# Altium footprint library Display_7Segment.PcbLib: 53 footprints (part 1 of 4)
Each footprint in its own frame and in the unit in brackets; x right, y up, seen from the top. Pads: shape width x height; smd on the part's side, far side on the other; paste and mask are expansions set on the pad; w line width, h text height; cw(c..) or ccw(c..) is an arc to the next point about the centre after c.
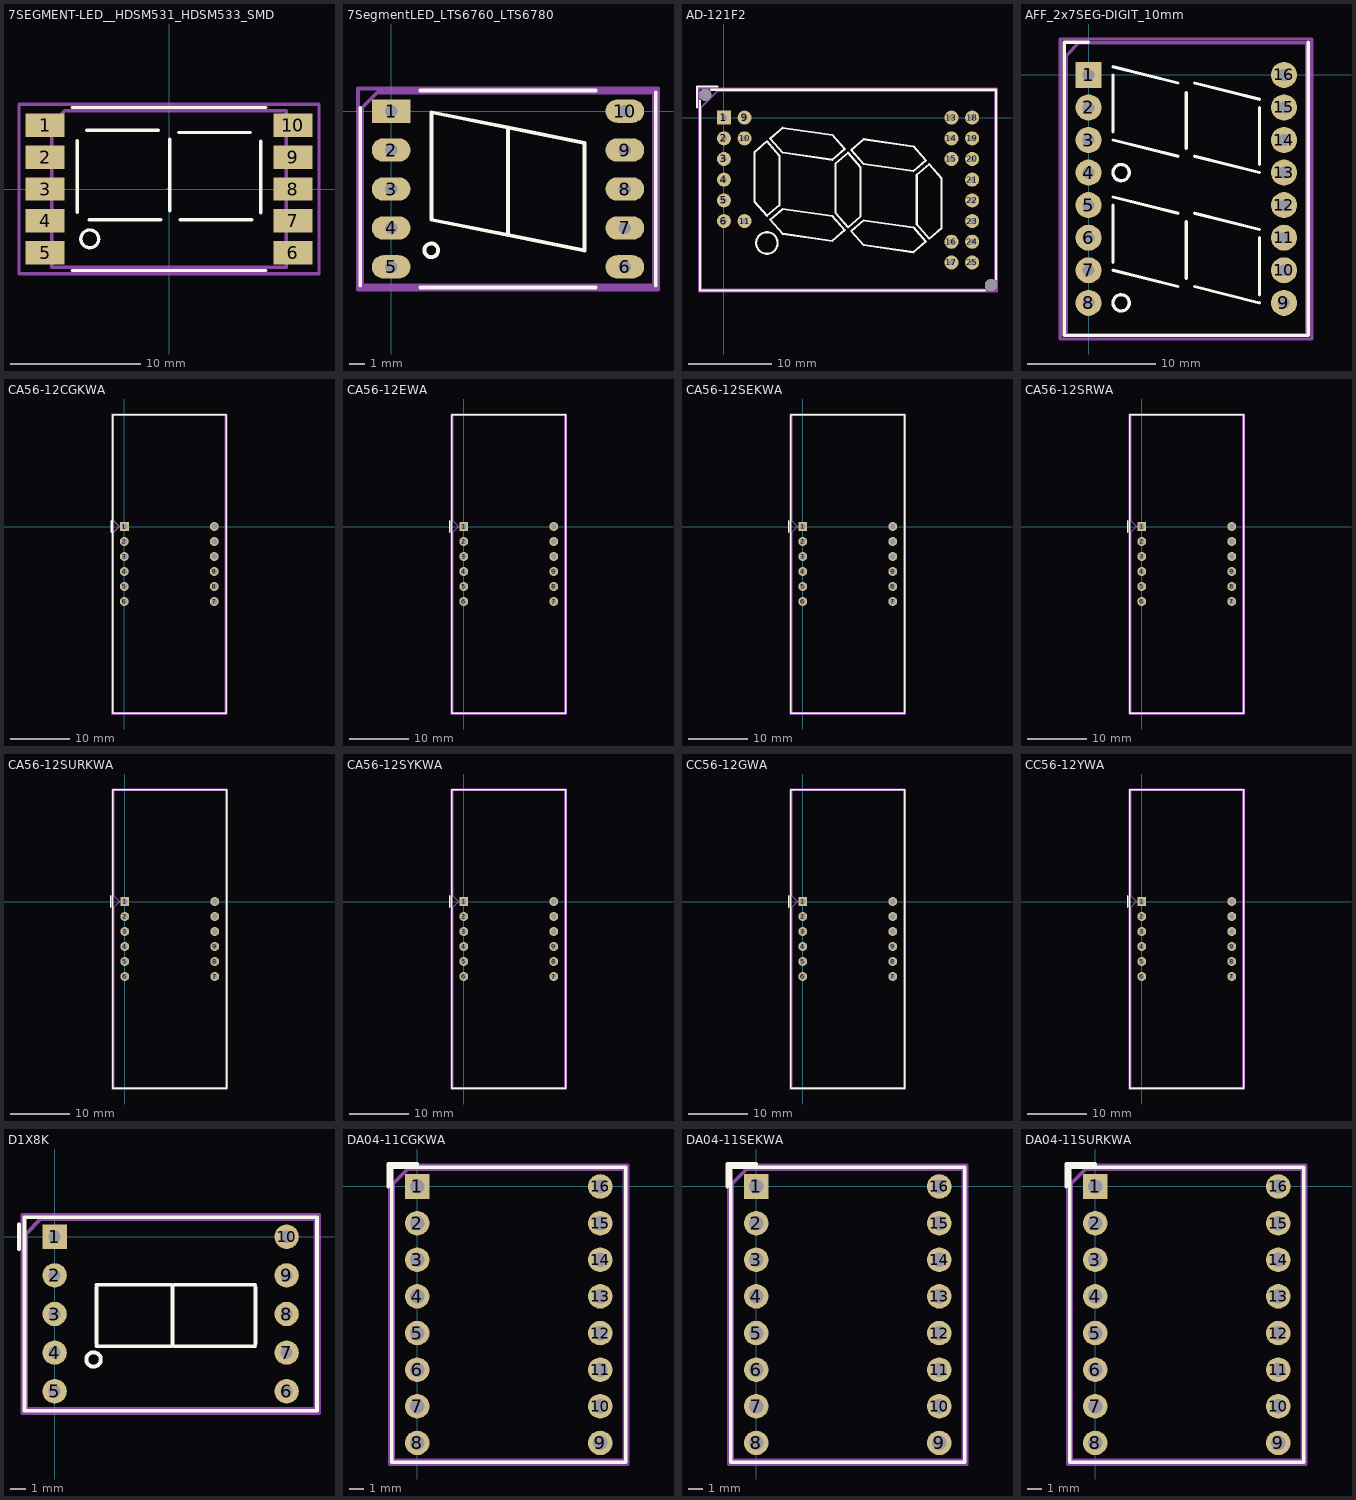
[diagram p0: the footprints below, top view; thin cyan lines are the x and y axes]

## 7SEGMENT-LED__HDSM531_HDSM533_SMD [mm]
pads (10):
  rect 3x1.8 smd: 1(-9.5,4.9) 2(-9.5,2.45) 3(-9.5,0) 4(-9.5,-2.45) 5(-9.5,-4.9) 6(9.5,-4.9) 7(9.5,-2.45) 8(9.5,0) 9(9.5,2.45) 10(9.5,4.9)
F.SilkS:
  circle w0.254: c-6.075,-3.825 r0.682
  lines w0.254: -7.425,-6.25 7.425,-6.25 ; -7.425,6.25 7.425,6.25 ; -7.025,-1.775 -7.025,3.725 ; -6.3,4.5 -0.8,4.5 ; -6.125,-2.35 -0.625,-2.35 ; 0.05,-1.675 0.05,3.825 ; 0.75,4.325 6.25,4.325 ; 0.85,-2.35 6.35,-2.35 ; 7.025,-1.825 7.025,3.675
Top Component Center:
  lines w0.127: -0.127,0 0.127,0 ; 0,-0.127 0,0.127
Top Assembly:
  lines w0.254: -9,-6 9,-6 9,6 -8,6 -9,5 -9,-6
  text "'.Designator'" at -4.047,-0.84 h1
Top Courtyard:
  lines w0.254: -11.5,-6.5 11.5,-6.5 11.5,6.5 -11.5,6.5 -11.5,-6.5
Top Designator:
  text ".Designator" at -7.618,-0.508 h1.52

## 7SegmentLED_LTS6760_LTS6780 [mm]
pads (10):
  rect 2.524x1.524 hole 0.8: 1(0,0)
  rrect100% 2.524x1.524 hole 0.8: 2(0,-2.54) 3(0,-5.08) 4(0,-7.62) 5(0,-10.16) 6(15.24,-10.16) 7(15.24,-7.62) 8(15.24,-5.08) 9(15.24,-2.54) 10(15.24,0)
F.SilkS:
  circle w0.254: c2.62,-9.08 r0.447
  lines w0.254: -2.015,-11.38 -2.015,0.22 ; 1.905,-11.49 13.335,-11.49 ; 1.905,1.33 13.335,1.33 ; 17.255,-11.38 17.255,1.22 ; 7.62,-8.08 12.62,-9.08 12.62,-2.08 7.62,-1.08 ; 7.62,-8.08 7.62,-1.08 ; 7.62,-8.08 2.62,-7.08 2.62,-0.08 7.62,-1.08
Top Assembly:
  lines w0.254: -1.905,-11.38 17.145,-11.38 17.145,1.22 -0.905,1.22 -1.905,0.22 -1.905,-11.38
  text "'.Designator'" at 3.823,-5.92 h1
Top Courtyard:
  lines w0.254: -2.16,-11.63 17.4,-11.63 17.4,1.47 -2.16,1.47 -2.16,-11.63
Top Designator:
  text ".Designator" at 0.002,-5.588 h1.52

## AD-121F2 [mm]
pads (24):
  rect 1.7x1.7 hole 0.7: 1(0,0)
  round 1.7 hole 0.7: 2(0,-2.5) 3(0,-5) 4(0,-7.5) 5(0,-10) 6(0,-12.5) 9(2.5,0) 10(2.5,-2.5) 11(2.5,-12.5) 13(27.5,0) 14(27.5,-2.5) 15(27.5,-5) 16(27.5,-15) 17(27.5,-17.5) 18(30,0) 19(30,-2.5) 20(30,-5) 21(30,-7.5) 22(30,-10) 23(30,-12.5) 24(30,-15) 25(30,-17.5)
  round 1.45 hole 1.45: Un1(-2.25,2.75) Un2(32.25,-20.25)
F.SilkS:
  circle w0.254: c5.2,-15.15 r1.3
  lines w0.254: -3.25,1.25 -3.25,3.75 -0.75,3.75 ; -2.87,2.05 -2.87,-20.87 31.55,-20.87 ; -1.55,3.37 32.87,3.37 32.87,-19.55 ; 3.7,-10.17 5.2,-11.87 6.7,-10.59 6.7,-4.59 5.2,-2.87 3.7,-4.17 3.7,-10.17 ; 5.6,-12.33 7.1,-11.03 13.1,-11.89 14.6,-13.59 13.1,-14.89 7.1,-14.03 5.6,-12.33 ; 5.6,-2.53 7.1,-1.23 13.1,-2.09 14.6,-3.79 13.1,-5.09 7.1,-4.23 5.6,-2.53 ; 13.5,-11.53 15,-13.25 16.5,-11.97 16.5,-5.97 15,-4.25 13.5,-5.53 13.5,-11.53 ; 15.4,-13.71 16.9,-12.41 22.9,-13.27 24.4,-14.97 22.9,-16.27 16.9,-15.41 15.4,-13.71 ; 15.4,-3.91 16.9,-2.61 22.9,-3.47 24.4,-5.17 22.9,-6.47 16.9,-5.61 15.4,-3.91 ; 23.3,-12.91 24.8,-14.63 26.3,-13.33 26.3,-7.33 24.8,-5.63 23.3,-6.91 23.3,-12.91
Top Assembly:
  lines w0.254: -2.75,-20.75 32.75,-20.75 32.75,3.25 -0.75,3.25 -2.75,1.25 -2.75,-20.75
  text "'.Designator'" at 10.953,-9.59 h1
Top Courtyard:
  lines w0.254: -3,-21 33,-21 33,3.5 -3,3.5 -3,-21
Top Designator:
  text ".Designator" at 7.257,-9.133 h1.52

## AFF_2x7SEG-DIGIT_10mm [mil]
pads (16):
  rect 80x80 hole 36: 1(0,0)
  round 80 hole 36: 2(0,-100) 3(0,-200) 4(0,-300) 5(0,-400) 6(0,-500) 7(0,-600) 8(0,-700) 9(600,-700) 10(600,-600) 11(600,-500) 12(600,-400) 13(600,-300) 14(600,-200) 15(600,-100) 16(600,0)
F.SilkS:
  circle w10: c100,-700 r25
  circle w10: c100,-300 r25
  lines w10: 0,100 -75,100 -75,50 -75,-350 -75,-400 -75,-800 675,-800 675,-400 675,-350 675,50 675,100 ; 75,-600 275,-650 ; 75,-575 75,-400 ; 75,-375 275,-425 ; 75,-200 275,-250 ; 75,-175 75,0 ; 75,25 275,-25 ; 300,-625 300,-450 ; 300,-225 300,-55 ; 300,-220 300,-60 ; 325,-650 525,-700 ; 325,-425 525,-475 ; 325,-250 525,-300 ; 325,-25 525,-75 ; 525,-675 525,-500 ; 525,-275 525,-100
Top Assembly:
  lines w10: -68.9,-797.24 669.29,-797.24 669.29,98.43 -29.53,98.43 -68.9,59.06 -68.9,-797.24
  text "'.Designator'" at 318.52,-484.13 h39.37
Top Courtyard:
  lines w10: -86.61,-811.02 685.04,-811.02 685.04,110.24 -86.61,110.24 -86.61,-811.02
Top Designator:
  text ".Designator" at -0.69,-370.39 h60

## CA56-12CGKWA [mm]
pads (12):
  rect 1.5x1.5 hole 1: 1(0,0)
  round 1.5 hole 1: 2(0,-2.54) 3(0,-5.08) 4(0,-7.62) 5(0,-10.16) 6(0,-12.7) 7(15.24,-12.7) 8(15.24,-10.16) 9(15.24,-7.62) 10(15.24,-5.08) 11(15.24,-2.54) 12(15.24,0)
F.SilkS:
  lines w0.254: -2.25,-1 -2.25,1 ; -2,-31.62 17.24,-31.62 17.24,18.92 -2,18.92 -2,-31.62
Top Assembly:
  lines w0.254: -1.88,-31.5 17.12,-31.5 17.12,18.8 -1.88,18.8 -1.88,1 -0.88,0 -1.88,-1 -1.88,-31.5
  text "'.Designator'" at 4.081,-7.444 h1
Top Courtyard:
  lines w0.254: -2.13,-31.75 17.37,-31.75 17.37,19.05 -2.13,19.05 -2.13,-31.75
Top Designator:
  text ".Designator" at -0.058,-6.858 h1.52

## CA56-12EWA [mm]
pads (12):
  rect 1.5x1.5 hole 1: 1(0,0)
  round 1.5 hole 1: 2(0,-2.54) 3(0,-5.08) 4(0,-7.62) 5(0,-10.16) 6(0,-12.7) 7(15.24,-12.7) 8(15.24,-10.16) 9(15.24,-7.62) 10(15.24,-5.08) 11(15.24,-2.54) 12(15.24,0)
F.SilkS:
  lines w0.254: -2.38,-1 -2.38,1 ; -2,-31.62 17.24,-31.62 17.24,18.92 -2,18.92 -2,-31.62
Top Assembly:
  lines w0.254: -1.88,-31.5 17.12,-31.5 17.12,18.8 -1.88,18.8 -1.88,1 -0.88,0 -1.88,-1 -1.88,-31.5
  text "'.Designator'" at 4.081,-7.444 h1
Top Courtyard:
  lines w0.254: -2.13,-31.75 17.37,-31.75 17.37,19.05 -2.13,19.05 -2.13,-31.75
Top Designator:
  text ".Designator" at -0.123,-6.858 h1.52

## CA56-12SEKWA [mm]
pads (12):
  rect 1.5x1.5 hole 1: 1(0,0)
  round 1.5 hole 1: 2(0,-2.54) 3(0,-5.08) 4(0,-7.62) 5(0,-10.16) 6(0,-12.7) 7(15.24,-12.7) 8(15.24,-10.16) 9(15.24,-7.62) 10(15.24,-5.08) 11(15.24,-2.54) 12(15.24,0)
F.SilkS:
  lines w0.254: -2.38,-1 -2.38,1 ; -2,-31.62 17.24,-31.62 17.24,18.92 -2,18.92 -2,-31.62
Top Assembly:
  lines w0.254: -1.88,-31.5 17.12,-31.5 17.12,18.8 -1.88,18.8 -1.88,1 -0.88,0 -1.88,-1 -1.88,-31.5
  text "'.Designator'" at 4.081,-7.444 h1
Top Courtyard:
  lines w0.254: -2.13,-31.75 17.37,-31.75 17.37,19.05 -2.13,19.05 -2.13,-31.75
Top Designator:
  text ".Designator" at -0.123,-6.858 h1.52

## CA56-12SRWA [mm]
pads (12):
  rect 1.5x1.5 hole 1: 1(0,0)
  round 1.5 hole 1: 2(0,-2.54) 3(0,-5.08) 4(0,-7.62) 5(0,-10.16) 6(0,-12.7) 7(15.24,-12.7) 8(15.24,-10.16) 9(15.24,-7.62) 10(15.24,-5.08) 11(15.24,-2.54) 12(15.24,0)
F.SilkS:
  lines w0.254: -2.38,-1 -2.38,1 ; -2,-31.62 17.24,-31.62 17.24,18.92 -2,18.92 -2,-31.62
Top Assembly:
  lines w0.254: -1.88,-31.5 17.12,-31.5 17.12,18.8 -1.88,18.8 -1.88,1 -0.88,0 -1.88,-1 -1.88,-31.5
  text "'.Designator'" at 4.081,-7.444 h1
Top Courtyard:
  lines w0.254: -2.13,-31.75 17.37,-31.75 17.37,19.05 -2.13,19.05 -2.13,-31.75
Top Designator:
  text ".Designator" at -0.123,-6.858 h1.52

## CA56-12SURKWA [mm]
pads (12):
  rect 1.5x1.5 hole 1: 1(0,0)
  round 1.5 hole 1: 2(0,-2.54) 3(0,-5.08) 4(0,-7.62) 5(0,-10.16) 6(0,-12.7) 7(15.24,-12.7) 8(15.24,-10.16) 9(15.24,-7.62) 10(15.24,-5.08) 11(15.24,-2.54) 12(15.24,0)
F.SilkS:
  lines w0.254: -2.38,-1 -2.38,1 ; -2,-31.62 17.24,-31.62 17.24,18.92 -2,18.92 -2,-31.62
Top Assembly:
  lines w0.254: -1.88,-31.5 17.12,-31.5 17.12,18.8 -1.88,18.8 -1.88,1 -0.88,0 -1.88,-1 -1.88,-31.5
  text "'.Designator'" at 4.081,-7.444 h1
Top Courtyard:
  lines w0.254: -2.13,-31.75 17.37,-31.75 17.37,19.05 -2.13,19.05 -2.13,-31.75
Top Designator:
  text ".Designator" at -0.123,-6.858 h1.52

## CA56-12SYKWA [mm]
pads (12):
  rect 1.5x1.5 hole 1: 1(0,0)
  round 1.5 hole 1: 2(0,-2.54) 3(0,-5.08) 4(0,-7.62) 5(0,-10.16) 6(0,-12.7) 7(15.24,-12.7) 8(15.24,-10.16) 9(15.24,-7.62) 10(15.24,-5.08) 11(15.24,-2.54) 12(15.24,0)
F.SilkS:
  lines w0.254: -2.38,-1 -2.38,1 ; -2,-31.62 17.24,-31.62 17.24,18.92 -2,18.92 -2,-31.62
Top Assembly:
  lines w0.254: -1.88,-31.5 17.12,-31.5 17.12,18.8 -1.88,18.8 -1.88,1 -0.88,0 -1.88,-1 -1.88,-31.5
  text "'.Designator'" at 4.081,-7.444 h1
Top Courtyard:
  lines w0.254: -2.13,-31.75 17.37,-31.75 17.37,19.05 -2.13,19.05 -2.13,-31.75
Top Designator:
  text ".Designator" at -0.123,-6.858 h1.52

## CC56-12GWA [mm]
pads (12):
  rect 1.5x1.5 hole 1: 1(0,0)
  round 1.5 hole 1: 2(0,-2.54) 3(0,-5.08) 4(0,-7.62) 5(0,-10.16) 6(0,-12.7) 7(15.24,-12.7) 8(15.24,-10.16) 9(15.24,-7.62) 10(15.24,-5.08) 11(15.24,-2.54) 12(15.24,0)
F.SilkS:
  lines w0.254: -2.38,-1 -2.38,1 ; -2,-31.62 17.24,-31.62 17.24,18.92 -2,18.92 -2,-31.62
Top Assembly:
  lines w0.254: -1.88,-31.5 17.12,-31.5 17.12,18.8 -1.88,18.8 -1.88,1 -0.88,0 -1.88,-1 -1.88,-31.5
  text "'.Designator'" at 4.081,-7.444 h1
Top Courtyard:
  lines w0.254: -2.13,-31.75 17.37,-31.75 17.37,19.05 -2.13,19.05 -2.13,-31.75
Top Designator:
  text ".Designator" at -0.123,-6.858 h1.52

## CC56-12YWA [mm]
pads (12):
  rect 1.5x1.5 hole 1: 1(0,0)
  round 1.5 hole 1: 2(0,-2.54) 3(0,-5.08) 4(0,-7.62) 5(0,-10.16) 6(0,-12.7) 7(15.24,-12.7) 8(15.24,-10.16) 9(15.24,-7.62) 10(15.24,-5.08) 11(15.24,-2.54) 12(15.24,0)
F.SilkS:
  lines w0.254: -2.38,-1 -2.38,1 ; -2,-31.62 17.24,-31.62 17.24,18.92 -2,18.92 -2,-31.62
Top Assembly:
  lines w0.254: -1.88,-31.5 17.12,-31.5 17.12,18.8 -1.88,18.8 -1.88,1 -0.88,0 -1.88,-1 -1.88,-31.5
  text "'.Designator'" at 4.081,-7.444 h1
Top Courtyard:
  lines w0.254: -2.13,-31.75 17.37,-31.75 17.37,19.05 -2.13,19.05 -2.13,-31.75
Top Designator:
  text ".Designator" at -0.123,-6.858 h1.52

## D1X8K [mm]
pads (10):
  rect 1.6x1.6 hole 0.8: 1(0,0)
  round 1.6 hole 0.8: 2(0,-2.54) 3(0,-5.08) 4(0,-7.62) 5(0,-10.16) 6(15.24,-10.16) 7(15.24,-7.62) 8(15.24,-5.08) 9(15.24,-2.54) 10(15.24,0)
F.SilkS:
  circle w0.254: c2.558,-8.07 r0.472
  lines w0.254: -2.34,-0.81 -2.34,0.8 ; 2.744,-7.198 7.646,-7.198 ; 2.744,-7.02 2.744,-3.337 ; 2.744,-3.159 7.646,-3.159 ; 7.748,-7.02 7.748,-3.337 ; 7.824,-7.198 13.183,-7.198 ; 7.824,-3.159 13.183,-3.159 ; 13.209,-7.02 13.209,-3.337 ; -1.99,-11.44 17.23,-11.44 17.23,1.28 -1.99,1.28 -1.99,-11.44
Top Assembly:
  lines w0.254: -1.88,-11.33 17.12,-11.33 17.12,1.17 -0.92,1.17 -1.88,0.17 -1.88,-11.33
  text "'.Designator'" at 6.314,-2.934 h0.35
Top Courtyard:
  lines w0.254: -2.13,-11.58 17.37,-11.58 17.37,1.42 -2.13,1.42 -2.13,-11.58
Top Designator:
  text ".Designator" at -0.103,-5.588 h1.52

## DA04-11CGKWA [mm]
pads (16):
  rect 1.7x1.7 hole 1: 1(0,0)
  round 1.7 hole 1: 2(0,-2.54) 3(0,-5.08) 4(0,-7.62) 5(0,-10.16) 6(0,-12.7) 7(0,-15.24) 8(0,-17.78) 9(12.7,-17.78) 10(12.7,-15.24) 11(12.7,-12.7) 12(12.7,-10.16) 13(12.7,-7.62) 14(12.7,-5.08) 15(12.7,-2.54) 16(12.7,0)
F.SilkS:
  lines w0.254: -2,0 -2,1.56 0.01,1.56 ; -1.77,-19.11 14.47,-19.11 14.47,1.33 -1.77,1.33 -1.77,-19.11
Top Assembly:
  lines w0.254: -1.65,-18.99 14.35,-18.99 14.35,1.21 -0.65,1.21 -1.65,0.21 -1.65,-18.99
  text "'.Designator'" at 2.953,-9.84 h1
Top Courtyard:
  lines w0.254: -1.9,-19.24 14.6,-19.24 14.6,1.46 -1.9,1.46 -1.9,-19.24
Top Designator:
  text ".Designator" at -1.318,-9.348 h1.52

## DA04-11SEKWA [mm]
pads (16):
  rect 1.7x1.7 hole 1: 1(0,0)
  round 1.7 hole 1: 2(0,-2.54) 3(0,-5.08) 4(0,-7.62) 5(0,-10.16) 6(0,-12.7) 7(0,-15.24) 8(0,-17.78) 9(12.7,-17.78) 10(12.7,-15.24) 11(12.7,-12.7) 12(12.7,-10.16) 13(12.7,-7.62) 14(12.7,-5.08) 15(12.7,-2.54) 16(12.7,0)
F.SilkS:
  lines w0.254: -2,0 -2,1.56 0,1.56 ; -1.77,-19.11 14.47,-19.11 14.47,1.33 -1.77,1.33 -1.77,-19.11
Top Assembly:
  lines w0.254: -1.65,-18.99 14.35,-18.99 14.35,1.21 -0.65,1.21 -1.65,0.21 -1.65,-18.99
  text "'.Designator'" at 2.953,-9.84 h1
Top Courtyard:
  lines w0.254: -1.9,-19.24 14.6,-19.24 14.6,1.46 -1.9,1.46 -1.9,-19.24
Top Designator:
  text ".Designator" at -1.318,-9.348 h1.52

## DA04-11SURKWA [mm]
pads (16):
  rect 1.7x1.7 hole 1: 1(0,0)
  round 1.7 hole 1: 2(0,-2.54) 3(0,-5.08) 4(0,-7.62) 5(0,-10.16) 6(0,-12.7) 7(0,-15.24) 8(0,-17.78) 9(12.7,-17.78) 10(12.7,-15.24) 11(12.7,-12.7) 12(12.7,-10.16) 13(12.7,-7.62) 14(12.7,-5.08) 15(12.7,-2.54) 16(12.7,0)
F.SilkS:
  lines w0.254: -2,0 -2,1.56 0,1.56 ; -1.77,-19.11 14.47,-19.11 14.47,1.33 -1.77,1.33 -1.77,-19.11
Top Assembly:
  lines w0.254: -1.65,-18.99 14.35,-18.99 14.35,1.21 -0.65,1.21 -1.65,0.21 -1.65,-18.99
  text "'.Designator'" at 2.953,-9.84 h1
Top Courtyard:
  lines w0.254: -1.9,-19.24 14.6,-19.24 14.6,1.46 -1.9,1.46 -1.9,-19.24
Top Designator:
  text ".Designator" at -1.318,-9.348 h1.52